# EAGLE library part MICROBUILDER_RESISTOR_4PACK (library Lemming v3)
Resistor Packs (4 resistors) 4 x 0603 10K 1/16W - Digikey: YC164J-10KCT-ND
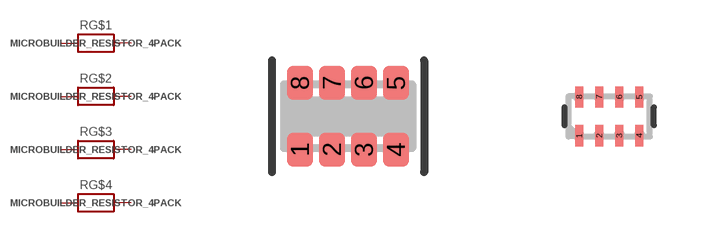
[diagram p4: symbol with the pads of MICROBUILDER_RESPACK_4X0603; footprints MICROBUILDER_RESPACK_4X0603, MICROBUILDER_RESPACK_4X0402]

Designator prefix R; gates G$1=MICROBUILDER_RESISTOR G$2=MICROBUILDER_RESISTOR G$3=MICROBUILDER_RESISTOR G$4=MICROBUILDER_RESISTOR

## MICROBUILDER_RESISTOR_4PACK  [MICROBUILDER_RESPACK_4X0603]
1  G$1:1  pas
2  G$2:1  pas
3  G$3:1  pas
4  G$4:1  pas
5  G$4:2  pas
6  G$3:2  pas
7  G$2:2  pas
8  G$1:2  pas

## MICROBUILDER_RESISTOR_4PACK_0804  [MICROBUILDER_RESPACK_4X0402]
Pads as for MICROBUILDER_RESPACK_4X0603

## MICROBUILDER_RESISTOR_4PACK_NO  [MICROBUILDER_RESPACK_4X0603_NO]
Pads as for MICROBUILDER_RESPACK_4X0603

## Footprint MICROBUILDER_RESPACK_4X0603 (pad centres in mm)
smd 0.65 x 0.85: 1 -1.2,-0.835; 2 -0.4,-0.835; 3 0.4,-0.835; 4 1.2,-0.835; 5 1.2,0.835; 6 0.4,0.835; 7 -0.4,0.835; 8 -1.2,0.835

## Footprint MICROBUILDER_RESPACK_4X0402 (pad centres in mm)
smd 0.203 x 0.533: 1 -0.75,-0.486; 2 -0.25,-0.486; 3 0.25,-0.486; 4 0.75,-0.486; 5 0.75,0.486; 6 0.25,0.486; 7 -0.25,0.486; 8 -0.75,0.486

## Footprint MICROBUILDER_RESPACK_4X0603_NO (pad centres in mm)
smd 0.45 x 0.9: 1 -1.3,-0.85; 2 -0.4,-0.85; 3 0.4,-0.85; 4 1.3,-0.85; 5 1.3,0.85; 6 0.4,0.85; 7 -0.4,0.85; 8 -1.3,0.85